# EAGLE library part PH08 (library wb-pinheader)
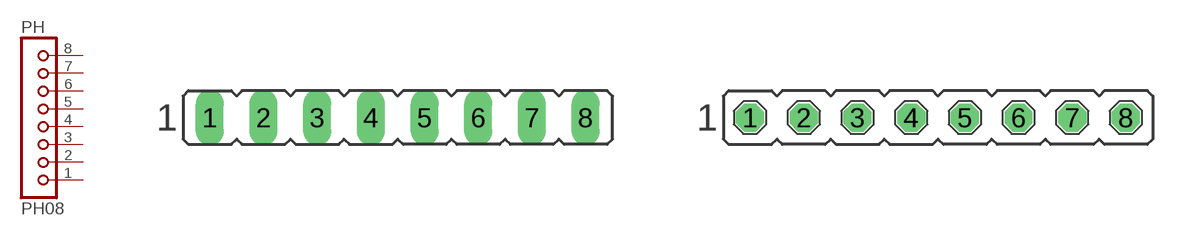
[diagram p2: symbol with the pads of 8PIN-L; footprints 8PIN-L, 8PIN-OCT]

Designator prefix PH

## PH08L  [8PIN-L]
1  1  pas
2  2  pas
3  3  pas
4  4  pas
5  5  pas
6  6  pas
7  7  pas
8  8  pas

## PH08OCT  [8PIN-OCT]
Pads as for 8PIN-L

## Footprint 8PIN-L (pad centres in mm)
drill 0.813 long: 1 -5.08,0; 2 -2.54,0; 3 0,0; 4 2.54,0; 5 5.08,0; 6 7.62,0; 7 10.16,0; 8 12.7,0

## Footprint 8PIN-OCT (pad centres in mm)
drill 0.813 octagon: 1 -8.89,0; 2 -6.35,0; 3 -3.81,0; 4 -1.27,0; 5 1.27,0; 6 3.81,0; 7 6.35,0; 8 8.89,0